# EAGLE library part PCA9557 (library saha-aux)
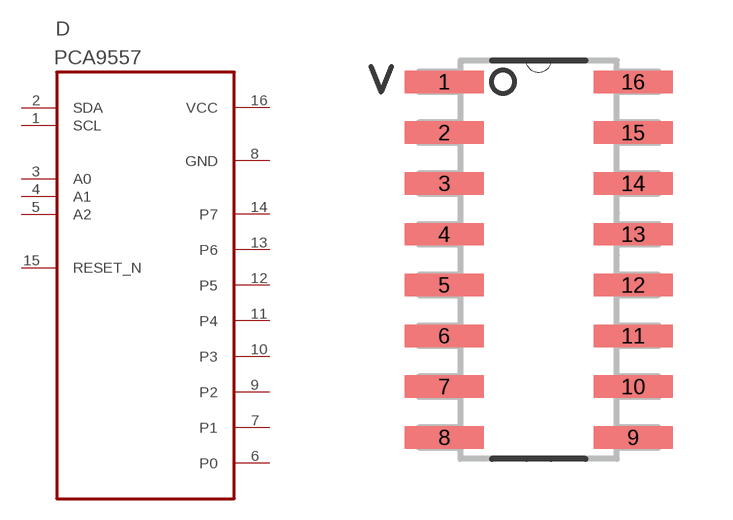
[diagram p5: symbol with the pads of SOIC16-N; footprint SOIC16-N]

Designator prefix D

## PCA9557  [SOIC16-N]
1  SCL
2  SDA  pwr
3  A0
4  A1
5  A2
6  P0  in
7  P1  in
8  GND
9  P2  in
10  P3  in
11  P4  in
12  P5  in
13  P6  in
14  P7  in
15  RESET_N
16  VCC

## Footprint SOIC16-N (pad centres in mm)
smd 1.981 x 0.559: 1 -2.362,4.445; 2 -2.362,3.175; 3 -2.362,1.905; 4 -2.362,0.635; 5 -2.362,-0.635; 6 -2.362,-1.905; 7 -2.362,-3.175; 8 -2.362,-4.445; 9 2.362,-4.445; 10 2.362,-3.175; 11 2.362,-1.905; 12 2.362,-0.635; 13 2.362,0.635; 14 2.362,1.905; 15 2.362,3.175; 16 2.362,4.445